# Altium footprint library DIP-CN  0607.PcbLib: 329 footprints (part 5 of 21)
Each footprint in its own frame and in the unit in brackets; x right, y up, seen from the top. Pads: shape width x height; smd on the part's side, far side on the other; paste and mask are expansions set on the pad; w line width, h text height; cw(c..) or ccw(c..) is an arc to the next point about the centre after c.
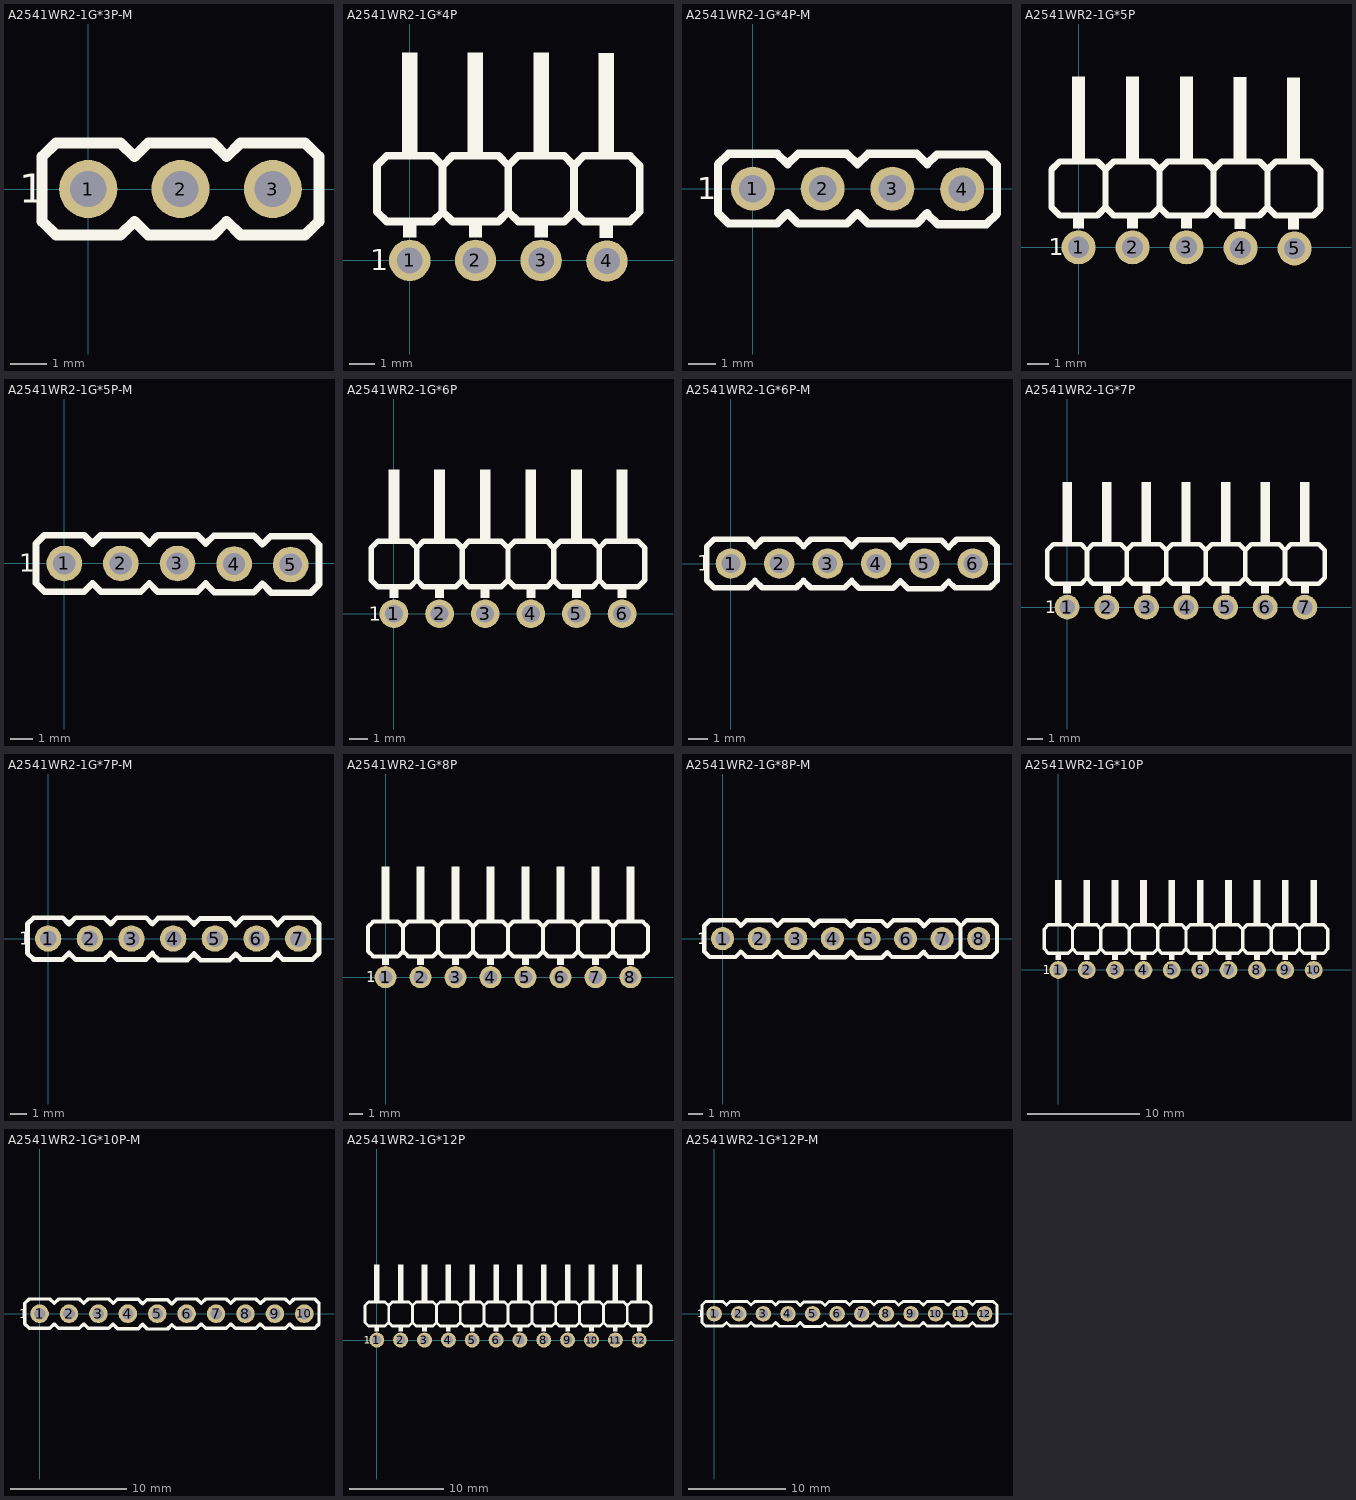
[diagram p4: the footprints below, top view; thin cyan lines are the x and y axes]

## A2541WR2-1G*3P-M [mm]
pads (3):
  round 1.6 hole 1: 1(0,0) 2(2.54,0) 3(5.08,0)
TopOverlay:
  lines w0.3: -1.27,-0.889 -0.889,-1.27 0.889,-1.27 1.27,-0.889 1.651,-1.27 3.429,-1.27 3.81,-0.889 4.191,-1.27 5.969,-1.27 6.35,-0.889 6.35,0.889 5.969,1.27 4.191,1.27 3.81,0.889 3.429,1.27 1.651,1.27 1.27,0.889 0.889,1.27 -0.889,1.27 -1.27,0.889 -1.27,-0.889
  text "1" at -1.905,-0.381 h0.8
BottomOverlay:
  lines w0.3: 1.27,-0.762 1.27,0.762 ; 3.81,-0.762 3.81,0.762

## A2541WR2-1G*4P [mm]
pads (4):
  round 1.6 hole 1: 1(0,0) 2(2.54,0) 3(5.08,0) 4(7.62,-0.025)
TopOverlay:
  rectangle: 7.341,0.864 7.849,1.475
  region: 7.895,4.015 7.895,8.015 7.295,8.015 7.295,4.015
  region: 5.38,4.04 5.38,8.04 4.78,8.04 4.78,4.04
  rectangle: 4.826,0.889 5.334,1.5
  rectangle: 2.286,0.889 2.794,1.5
  rectangle: -0.254,0.889 0.254,1.5
  region: 0.3,4.04 0.3,8.04 -0.3,8.04 -0.3,4.04
  region: 2.84,4.04 2.84,8.04 2.24,8.04 2.24,4.04
  lines w0.3: -1.27,3.611 -1.27,1.881 -0.889,1.5 0.889,1.5 1.27,1.881 ; -1.27,3.659 -0.889,4.04 0.889,4.04 1.27,3.659 ; 8.89,3.611 8.89,1.881 8.509,1.5 6.731,1.5 6.35,1.881 ; 8.89,3.659 8.509,4.04 6.731,4.04 6.35,3.659 ; 1.27,1.881 1.27,3.659 ; 1.27,1.881 1.651,1.5 3.429,1.5 3.81,1.881 4.191,1.5 5.969,1.5 6.35,1.881 ; 1.27,1.881 1.27,3.659 ; 1.27,3.659 1.651,4.04 3.429,4.04 3.81,3.659 4.191,4.04 5.969,4.04 6.35,3.659 ; 6.35,1.881 6.35,3.659 ; 6.35,1.881 6.35,3.659 ; 3.81,1.905 3.81,3.635 3.81,1.905
  text "1" at -1.524,-0.381 h0.8
BottomOverlay:
  lines w0.3: 1.27,-0.762 1.27,0.762 ; 3.81,-0.762 3.81,0.762 ; 6.35,-0.762 6.35,0.762

## A2541WR2-1G*4P-M [mm]
pads (4):
  round 1.6 hole 1: 1(0,0) 2(2.54,0) 3(5.08,0) 4(7.62,-0.025)
TopOverlay:
  lines w0.3: 6.35,-0.914 6.731,-1.295 8.509,-1.295 8.89,-0.914 8.89,0.864 8.509,1.245 6.731,1.245 ; 6.35,-0.889 5.969,-1.27 4.191,-1.27 3.81,-0.889 3.429,-1.27 1.651,-1.27 1.27,-0.889 0.889,-1.27 -0.889,-1.27 -1.27,-0.889 -1.27,0.889 -0.889,1.27 0.889,1.27 1.27,0.889 1.651,1.27 3.429,1.27 3.81,0.889 4.191,1.27 5.969,1.27 6.35,0.889 6.706,1.245
  text "1" at -2.032,-0.381 h0.8
BottomOverlay:
  lines w0.3: 1.27,-0.762 1.27,0.762 ; 3.81,-0.762 3.81,0.762 ; 6.35,-0.762 6.35,0.762

## A2541WR2-1G*5P [mm]
pads (5):
  round 1.6 hole 1: 1(0,0) 2(2.54,0) 3(5.08,0) 4(7.62,-0.025) 5(10.16,-0.051)
TopOverlay:
  rectangle: 7.341,0.864 7.849,1.475
  region: 7.895,4.015 7.895,8.015 7.295,8.015 7.295,4.015
  region: 10.409,3.989 10.409,7.989 9.809,7.989 9.809,3.989
  rectangle: 9.855,0.838 10.363,1.449
  rectangle: 7.341,0.864 7.849,1.475
  region: 7.895,4.015 7.895,8.015 7.295,8.015 7.295,4.015
  region: 5.38,4.04 5.38,8.04 4.78,8.04 4.78,4.04
  rectangle: 4.826,0.889 5.334,1.5
  rectangle: 2.286,0.889 2.794,1.5
  rectangle: -0.254,0.889 0.254,1.5
  region: 0.3,4.04 0.3,8.04 -0.3,8.04 -0.3,4.04
  region: 2.84,4.04 2.84,8.04 2.24,8.04 2.24,4.04
  lines w0.3: -1.27,3.611 -1.27,1.881 -0.889,1.5 0.889,1.5 1.27,1.881 ; -1.27,3.659 -0.889,4.04 0.889,4.04 1.27,3.659 ; 8.89,3.611 8.89,1.881 ; 10.998,3.989 11.379,3.608 10.947,4.04 9.271,4.04 8.89,3.659 8.509,4.04 6.731,4.04 6.35,3.659 ; 11.379,3.56 11.379,1.83 11.049,1.5 9.271,1.5 8.89,1.881 ; 1.27,1.881 1.27,3.659 ; 1.27,1.881 1.651,1.5 3.429,1.5 3.81,1.881 4.191,1.5 5.969,1.5 6.35,1.881 ; 1.27,1.881 1.27,3.659 ; 1.27,3.659 1.651,4.04 3.429,4.04 3.81,3.659 4.191,4.04 5.969,4.04 6.35,3.659 ; 6.35,1.881 6.35,3.659 ; 6.35,1.881 6.731,1.5 8.509,1.5 8.89,1.881 ; 6.35,1.881 6.35,3.659 ; 3.81,1.905 3.81,3.635 3.81,1.905
  text "1" at -1.397,-0.381 h0.8
BottomOverlay:
  lines w0.3: 1.27,-0.762 1.27,0.762 ; 3.81,-0.762 3.81,0.762 ; 6.35,-0.762 6.35,0.762 ; 8.865,-0.787 8.865,0.737

## A2541WR2-1G*5P-M [mm]
pads (5):
  round 1.6 hole 1: 1(0,0) 2(2.54,0) 3(5.08,0) 4(7.62,-0.025) 5(10.16,-0.051)
TopOverlay:
  lines w0.3: 6.35,-0.914 6.731,-1.295 8.509,-1.295 8.89,-0.914 9.296,-1.321 11.049,-1.321 11.43,-0.94 11.43,0.838 11.049,1.219 9.246,1.219 8.89,0.864 8.509,1.245 6.731,1.245 ; 6.35,-0.889 5.969,-1.27 4.191,-1.27 3.81,-0.889 3.429,-1.27 1.651,-1.27 1.27,-0.889 0.889,-1.27 -0.889,-1.27 -1.27,-0.889 -1.27,0.889 -0.889,1.27 0.889,1.27 1.27,0.889 1.651,1.27 3.429,1.27 3.81,0.889 4.191,1.27 5.969,1.27 6.35,0.889 6.706,1.245
  text "1" at -2.032,-0.381 h0.8
BottomOverlay:
  lines w0.3: 1.27,-0.762 1.27,0.762 ; 3.81,-0.762 3.81,0.762 ; 6.35,-0.762 6.35,0.762 ; 8.865,-0.787 8.865,0.737

## A2541WR2-1G*6P [mm]
pads (6):
  round 1.6 hole 1: 1(0,0) 2(2.54,0) 3(5.08,0) 4(7.62,0) 5(10.16,0) 6(12.7,0)
TopOverlay:
  region: 5.38,4.04 5.38,8.04 4.78,8.04 4.78,4.04
  rectangle: 4.826,0.889 5.334,1.5
  rectangle: 2.286,0.889 2.794,1.5
  rectangle: -0.254,0.889 0.254,1.5
  region: 0.3,4.04 0.3,8.04 -0.3,8.04 -0.3,4.04
  region: 2.84,4.04 2.84,8.04 2.24,8.04 2.24,4.04
  rectangle: 7.366,0.889 7.874,1.5
  region: 7.92,4.04 7.92,8.04 7.32,8.04 7.32,4.04
  rectangle: 9.906,0.889 10.414,1.5
  region: 10.46,4.04 10.46,8.04 9.86,8.04 9.86,4.04
  region: 13,4.04 13,8.04 12.4,8.04 12.4,4.04
  rectangle: 12.446,0.889 12.954,1.5
  lines w0.3: -1.27,1.881 -0.889,1.5 0.889,1.5 1.27,1.881 ; -1.27,1.905 -1.27,3.635 ; -1.27,3.659 -0.889,4.04 0.889,4.04 1.27,3.659 ; 3.81,1.905 3.81,3.635 ; 11.43,1.905 11.43,3.635 ; 1.27,1.881 1.27,3.659 ; 1.27,1.881 1.651,1.5 3.429,1.5 3.81,1.881 4.191,1.5 5.969,1.5 6.35,1.881 ; 1.27,1.881 1.27,3.659 ; 1.27,3.659 1.651,4.04 3.429,4.04 3.81,3.659 4.191,4.04 5.969,4.04 6.35,3.659 ; 6.35,1.881 6.35,3.659 ; 6.35,1.881 6.731,1.5 8.509,1.5 8.89,1.881 ; 6.35,3.659 6.731,4.04 8.509,4.04 8.89,3.659 ; 8.89,1.881 8.89,3.659 ; 8.89,1.881 9.271,1.5 11.049,1.5 11.43,1.881 11.811,1.5 13.589,1.5 13.97,1.881 ; 8.89,1.881 8.89,3.659 ; 8.89,3.659 9.271,4.04 11.049,4.04 11.43,3.659 11.811,4.04 13.589,4.04 13.97,3.659 ; 13.97,1.881 13.97,3.659 ; 13.97,1.881 13.97,3.659
  text "1" at -1.397,-0.381 h0.8
BottomOverlay:
  lines w0.3: 1.27,-0.762 1.27,0.762 ; 3.81,-0.762 3.81,0.762 ; 6.35,-0.762 6.35,0.762 ; 8.89,-0.762 8.89,0.762 ; 11.43,-0.762 11.43,0.762

## A2541WR2-1G*6P-M [mm]
pads (6):
  round 1.6 hole 1: 1(0,0) 2(2.54,0) 3(5.08,0) 4(7.62,0) 5(10.16,0) 6(12.7,0)
TopOverlay:
  lines w0.3: 6.35,-0.914 6.731,-1.295 8.509,-1.295 8.89,-0.914 9.296,-1.321 11.049,-1.321 11.43,-0.94 11.76,-1.27 13.589,-1.27 13.97,-0.889 13.97,0.889 13.589,1.27 11.862,1.27 11.43,0.838 11.049,1.219 9.246,1.219 8.89,0.864 8.509,1.245 6.731,1.245 ; 6.35,-0.889 5.969,-1.27 4.191,-1.27 3.81,-0.889 3.429,-1.27 1.651,-1.27 1.27,-0.889 0.889,-1.27 -0.889,-1.27 -1.27,-0.889 -1.27,0.889 -0.889,1.27 0.889,1.27 1.27,0.889 1.651,1.27 3.429,1.27 3.81,0.889 4.191,1.27 5.969,1.27 6.35,0.889 6.706,1.245
  text "1" at -1.778,-0.381 h0.8
BottomOverlay:
  lines w0.3: 1.27,-0.762 1.27,0.762 ; 3.81,-0.762 3.81,0.762 ; 6.35,-0.762 6.35,0.762 ; 8.89,-0.762 8.89,0.762 ; 11.43,-0.762 11.43,0.762

## A2541WR2-1G*7P [mm]
pads (7):
  round 1.6 hole 1: 1(0,0) 2(2.54,0) 3(5.08,0) 4(7.62,0) 5(10.16,0) 6(12.7,0) 7(15.24,0)
TopOverlay:
  region: 5.38,4.04 5.38,8.04 4.78,8.04 4.78,4.04
  rectangle: 4.826,0.889 5.334,1.5
  rectangle: 2.286,0.889 2.794,1.5
  rectangle: -0.254,0.889 0.254,1.5
  region: 0.3,4.04 0.3,8.04 -0.3,8.04 -0.3,4.04
  region: 2.84,4.04 2.84,8.04 2.24,8.04 2.24,4.04
  rectangle: 7.366,0.889 7.874,1.5
  region: 7.92,4.04 7.92,8.04 7.32,8.04 7.32,4.04
  rectangle: 9.906,0.889 10.414,1.5
  region: 10.46,4.04 10.46,8.04 9.86,8.04 9.86,4.04
  region: 13,4.04 13,8.04 12.4,8.04 12.4,4.04
  rectangle: 12.446,0.889 12.954,1.5
  rectangle: 14.986,0.889 15.494,1.5
  region: 15.54,4.04 15.54,8.04 14.94,8.04 14.94,4.04
  lines w0.3: -1.27,1.881 -0.889,1.5 0.889,1.5 1.27,1.881 ; -1.27,1.905 -1.27,3.635 ; -1.27,3.659 -0.889,4.04 0.889,4.04 1.27,3.659 ; 3.81,1.905 3.81,3.635 ; 11.43,1.905 11.43,3.635 ; 1.27,1.881 1.27,3.659 ; 1.27,1.881 1.651,1.5 3.429,1.5 3.81,1.881 4.191,1.5 5.969,1.5 6.35,1.881 ; 1.27,1.881 1.27,3.659 ; 1.27,3.659 1.651,4.04 3.429,4.04 3.81,3.659 4.191,4.04 5.969,4.04 6.35,3.659 ; 6.35,1.881 6.35,3.659 ; 6.35,1.881 6.731,1.5 8.509,1.5 8.89,1.881 ; 6.35,3.659 6.731,4.04 8.509,4.04 8.89,3.659 ; 8.89,1.881 8.89,3.659 ; 8.89,1.881 9.271,1.5 11.049,1.5 11.43,1.881 11.811,1.5 13.589,1.5 13.97,1.881 ; 8.89,1.881 8.89,3.659 ; 8.89,3.659 9.271,4.04 11.049,4.04 11.43,3.659 11.811,4.04 13.589,4.04 13.97,3.659 ; 13.97,1.881 13.97,3.659 ; 13.97,1.881 13.97,3.659 ; 13.97,1.881 14.351,1.5 16.129,1.5 16.51,1.881 ; 13.97,3.659 14.351,4.04 16.129,4.04 16.51,3.659 ; 16.51,1.881 16.51,3.659 ; 16.51,1.881 16.51,3.659
  text "1" at -1.397,-0.381 h0.8
BottomOverlay:
  lines w0.3: 1.27,-0.762 1.27,0.762 ; 3.81,-0.762 3.81,0.762 ; 6.35,-0.762 6.35,0.762 ; 8.89,-0.762 8.89,0.762 ; 11.43,-0.762 11.43,0.762 ; 13.97,-0.762 13.97,0.762

## A2541WR2-1G*7P-M [mm]
pads (7):
  round 1.6 hole 1: 1(0,0) 2(2.54,0) 3(5.08,0) 4(7.62,0) 5(10.16,0) 6(12.7,0) 7(15.24,0)
TopOverlay:
  lines w0.3: 6.35,-0.914 6.731,-1.295 8.509,-1.295 8.89,-0.914 9.296,-1.321 11.049,-1.321 11.43,-0.94 11.76,-1.27 13.589,-1.27 13.97,-0.889 ; 6.35,-0.889 5.969,-1.27 4.191,-1.27 3.81,-0.889 3.429,-1.27 1.651,-1.27 1.27,-0.889 0.889,-1.27 -0.889,-1.27 -1.27,-0.889 -1.27,0.889 -0.889,1.27 0.889,1.27 1.27,0.889 1.651,1.27 3.429,1.27 3.81,0.889 4.191,1.27 5.969,1.27 6.35,0.889 6.706,1.245 ; 6.731,1.245 8.509,1.245 8.89,0.864 9.246,1.219 11.049,1.219 11.43,0.838 11.862,1.27 13.589,1.27 13.97,0.889 ; 13.97,-0.94 14.3,-1.27 16.129,-1.27 16.51,-0.889 16.51,0.889 16.129,1.27 14.402,1.27 13.97,0.838
  text "1" at -1.778,-0.381 h0.8
BottomOverlay:
  lines w0.3: 1.27,-0.762 1.27,0.762 ; 3.81,-0.762 3.81,0.762 ; 6.35,-0.762 6.35,0.762 ; 8.89,-0.762 8.89,0.762 ; 11.43,-0.762 11.43,0.762 ; 13.97,-0.762 13.97,0.762

## A2541WR2-1G*8P [mm]
pads (8):
  round 1.6 hole 1: 1(0,0) 2(2.54,0) 3(5.08,0) 4(7.62,0) 5(10.16,0) 6(12.7,0) 7(15.24,0) 8(17.78,0)
TopOverlay:
  region: 18.08,4.04 18.08,8.04 17.48,8.04 17.48,4.04
  rectangle: 17.526,0.889 18.034,1.5
  region: 5.38,4.04 5.38,8.04 4.78,8.04 4.78,4.04
  rectangle: 4.826,0.889 5.334,1.5
  rectangle: 2.286,0.889 2.794,1.5
  rectangle: -0.254,0.889 0.254,1.5
  region: 0.3,4.04 0.3,8.04 -0.3,8.04 -0.3,4.04
  region: 2.84,4.04 2.84,8.04 2.24,8.04 2.24,4.04
  rectangle: 7.366,0.889 7.874,1.5
  region: 7.92,4.04 7.92,8.04 7.32,8.04 7.32,4.04
  rectangle: 9.906,0.889 10.414,1.5
  region: 10.46,4.04 10.46,8.04 9.86,8.04 9.86,4.04
  region: 13,4.04 13,8.04 12.4,8.04 12.4,4.04
  rectangle: 12.446,0.889 12.954,1.5
  rectangle: 14.986,0.889 15.494,1.5
  region: 15.54,4.04 15.54,8.04 14.94,8.04 14.94,4.04
  lines w0.3: -1.27,1.881 -0.889,1.5 0.889,1.5 1.27,1.881 ; -1.27,1.905 -1.27,3.635 ; -1.27,3.659 -0.889,4.04 0.889,4.04 1.27,3.659 ; 3.81,1.905 3.81,3.635 ; 11.43,1.905 11.43,3.635 ; 1.27,1.881 1.27,3.659 ; 1.27,1.881 1.651,1.5 3.429,1.5 3.81,1.881 4.191,1.5 5.969,1.5 6.35,1.881 ; 1.27,1.881 1.27,3.659 ; 1.27,3.659 1.651,4.04 3.429,4.04 3.81,3.659 4.191,4.04 5.969,4.04 6.35,3.659 ; 6.35,1.881 6.35,3.659 ; 6.35,1.881 6.731,1.5 8.509,1.5 8.89,1.881 ; 6.35,3.659 6.731,4.04 8.509,4.04 8.89,3.659 ; 8.89,1.881 8.89,3.659 ; 8.89,1.881 9.271,1.5 11.049,1.5 11.43,1.881 11.811,1.5 13.589,1.5 13.97,1.881 ; 8.89,1.881 8.89,3.659 ; 8.89,3.659 9.271,4.04 11.049,4.04 11.43,3.659 11.811,4.04 13.589,4.04 13.97,3.659 ; 13.97,1.881 13.97,3.659 ; 13.97,1.881 13.97,3.659 ; 13.97,1.881 14.351,1.5 16.129,1.5 16.51,1.881 ; 13.97,3.659 14.351,4.04 16.129,4.04 16.51,3.659 ; 16.51,1.881 16.891,1.5 18.669,1.5 19.05,1.881 ; 16.51,1.881 16.51,3.659 ; 16.51,1.881 16.51,3.659 ; 16.51,3.659 16.891,4.04 18.669,4.04 19.05,3.659 ; 19.05,1.881 19.05,3.659 ; 19.05,1.881 19.05,3.659
  text "1" at -1.397,-0.381 h0.8
BottomOverlay:
  lines w0.3: 1.27,-0.762 1.27,0.762 ; 3.81,-0.762 3.81,0.762 ; 6.35,-0.762 6.35,0.762 ; 8.89,-0.762 8.89,0.762 ; 11.43,-0.762 11.43,0.762 ; 13.97,-0.762 13.97,0.762 ; 16.51,-0.762 16.51,0.762

## A2541WR2-1G*8P-M [mm]
pads (8):
  round 1.6 hole 1: 1(0,0) 2(2.54,0) 3(5.08,0) 4(7.62,0) 5(10.16,0) 6(12.7,0) 7(15.24,0) 8(17.78,0)
TopOverlay:
  lines w0.3: 6.35,-0.914 6.731,-1.295 8.509,-1.295 8.89,-0.914 9.296,-1.321 11.049,-1.321 11.43,-0.94 11.76,-1.27 13.589,-1.27 13.97,-0.889 ; 6.35,-0.889 5.969,-1.27 4.191,-1.27 3.81,-0.889 3.429,-1.27 1.651,-1.27 1.27,-0.889 0.889,-1.27 -0.889,-1.27 -1.27,-0.889 -1.27,0.889 -0.889,1.27 0.889,1.27 1.27,0.889 1.651,1.27 3.429,1.27 3.81,0.889 4.191,1.27 5.969,1.27 6.35,0.889 6.706,1.245 ; 6.731,1.245 8.509,1.245 8.89,0.864 9.246,1.219 11.049,1.219 11.43,0.838 11.862,1.27 13.589,1.27 13.97,0.889 ; 13.97,-0.94 14.3,-1.27 16.129,-1.27 16.51,-0.889 16.51,0.889 16.129,1.27 14.402,1.27 13.97,0.838 ; 16.51,-0.94 16.84,-1.27 18.669,-1.27 19.05,-0.889 19.05,0.889 18.669,1.27 16.942,1.27 16.51,0.838
  text "1" at -1.778,-0.381 h0.8
BottomOverlay:
  lines w0.3: 1.27,-0.762 1.27,0.762 ; 3.81,-0.762 3.81,0.762 ; 6.35,-0.762 6.35,0.762 ; 8.89,-0.762 8.89,0.762 ; 11.43,-0.762 11.43,0.762 ; 13.97,-0.762 13.97,0.762 ; 16.51,-0.762 16.51,0.762

## A2541WR2-1G*10P [mm]
pads (10):
  round 1.6 hole 1: 1(0,0) 2(2.54,0) 3(5.08,0) 4(7.62,0) 5(10.16,0) 6(12.7,0) 7(15.24,0) 8(17.78,0) 9(20.32,0) 10(22.86,0)
TopOverlay:
  region: 18.08,4.04 18.08,8.04 17.48,8.04 17.48,4.04
  rectangle: 17.526,0.889 18.034,1.5
  region: 5.38,4.04 5.38,8.04 4.78,8.04 4.78,4.04
  rectangle: 4.826,0.889 5.334,1.5
  rectangle: 2.286,0.889 2.794,1.5
  rectangle: -0.254,0.889 0.254,1.5
  region: 0.3,4.04 0.3,8.04 -0.3,8.04 -0.3,4.04
  region: 2.84,4.04 2.84,8.04 2.24,8.04 2.24,4.04
  rectangle: 7.366,0.889 7.874,1.5
  region: 7.92,4.04 7.92,8.04 7.32,8.04 7.32,4.04
  rectangle: 9.906,0.889 10.414,1.5
  region: 10.46,4.04 10.46,8.04 9.86,8.04 9.86,4.04
  region: 13,4.04 13,8.04 12.4,8.04 12.4,4.04
  rectangle: 12.446,0.889 12.954,1.5
  rectangle: 14.986,0.889 15.494,1.5
  region: 15.54,4.04 15.54,8.04 14.94,8.04 14.94,4.04
  region: 20.62,4.04 20.62,8.04 20.02,8.04 20.02,4.04
  rectangle: 20.066,0.889 20.574,1.5
  rectangle: 22.606,0.889 23.114,1.5
  region: 23.16,4.04 23.16,8.04 22.56,8.04 22.56,4.04
  lines w0.3: -1.27,1.881 -0.889,1.5 0.889,1.5 1.27,1.881 ; -1.27,1.905 -1.27,3.635 ; -1.27,3.659 -0.889,4.04 0.889,4.04 1.27,3.659 ; 3.81,1.905 3.81,3.635 ; 11.43,1.905 11.43,3.635 ; 1.27,1.881 1.27,3.659 ; 1.27,1.881 1.651,1.5 3.429,1.5 3.81,1.881 4.191,1.5 5.969,1.5 6.35,1.881 ; 1.27,1.881 1.27,3.659 ; 1.27,3.659 1.651,4.04 3.429,4.04 3.81,3.659 4.191,4.04 5.969,4.04 6.35,3.659 ; 6.35,1.881 6.35,3.659 ; 6.35,1.881 6.731,1.5 8.509,1.5 8.89,1.881 ; 6.35,3.659 6.731,4.04 8.509,4.04 8.89,3.659 ; 8.89,1.881 8.89,3.659 ; 8.89,1.881 9.271,1.5 11.049,1.5 11.43,1.881 11.811,1.5 13.589,1.5 13.97,1.881 ; 8.89,1.881 8.89,3.659 ; 8.89,3.659 9.271,4.04 11.049,4.04 11.43,3.659 11.811,4.04 13.589,4.04 13.97,3.659 ; 13.97,1.881 13.97,3.659 ; 13.97,1.881 13.97,3.659 ; 13.97,1.881 14.351,1.5 16.129,1.5 16.51,1.881 ; 13.97,3.659 14.351,4.04 16.129,4.04 16.51,3.659 ; 16.51,1.881 16.891,1.5 18.669,1.5 19.05,1.881 ; 16.51,1.881 16.51,3.659 ; 16.51,1.881 16.51,3.659 ; 16.51,3.659 16.891,4.04 18.669,4.04 19.05,3.659 ; 19.05,1.881 19.05,3.659 ; 19.05,1.881 19.05,3.659 ; 19.05,1.881 19.431,1.5 21.209,1.5 21.59,1.881 ; 19.05,3.659 19.431,4.04 21.209,4.04 21.59,3.659 ; 21.59,1.881 21.59,3.659 ; 21.59,1.881 21.59,3.659 ; 21.59,1.881 21.971,1.5 23.749,1.5 24.13,1.881 ; 21.59,3.659 21.971,4.04 23.749,4.04 24.13,3.659 ; 24.13,1.881 24.13,3.659 ; 24.13,1.881 24.13,3.659
  text "1" at -1.397,-0.381 h0.8
BottomOverlay:
  lines w0.3: 1.27,-0.762 1.27,0.762 ; 3.81,-0.762 3.81,0.762 ; 6.35,-0.762 6.35,0.762 ; 8.89,-0.762 8.89,0.762 ; 11.43,-0.762 11.43,0.762 ; 13.97,-0.762 13.97,0.762 ; 16.51,-0.762 16.51,0.762 ; 19.05,-0.762 19.05,0.762 ; 21.59,-0.762 21.59,0.762

## A2541WR2-1G*10P-M [mm]
pads (10):
  round 1.6 hole 1: 1(0,0) 2(2.54,0) 3(5.08,0) 4(7.62,0) 5(10.16,0) 6(12.7,0) 7(15.24,0) 8(17.78,0) 9(20.32,0) 10(22.86,0)
TopOverlay:
  lines w0.3: 6.35,-0.914 6.731,-1.295 8.509,-1.295 8.89,-0.914 9.296,-1.321 11.049,-1.321 11.43,-0.94 11.76,-1.27 13.589,-1.27 13.97,-0.889 14.351,-1.27 16.129,-1.27 16.51,-0.889 16.891,-1.27 18.669,-1.27 19.05,-0.889 19.431,-1.27 21.209,-1.27 21.59,-0.889 21.971,-1.27 23.749,-1.27 24.13,-0.889 24.13,0.889 23.749,1.27 21.971,1.27 21.59,0.889 21.209,1.27 19.482,1.27 19.05,0.889 18.669,1.27 16.891,1.27 16.51,0.889 16.129,1.27 14.351,1.27 13.97,0.889 13.589,1.27 11.862,1.27 11.43,0.838 11.049,1.219 9.246,1.219 8.89,0.864 8.509,1.245 6.731,1.245 ; 6.35,-0.889 5.969,-1.27 4.191,-1.27 3.81,-0.889 3.429,-1.27 1.651,-1.27 1.27,-0.889 0.889,-1.27 -0.889,-1.27 -1.27,-0.889 -1.27,0.889 -0.889,1.27 0.889,1.27 1.27,0.889 1.651,1.27 3.429,1.27 3.81,0.889 4.191,1.27 5.969,1.27 6.35,0.889 6.706,1.245
  text "1" at -1.778,-0.381 h0.8
BottomOverlay:
  lines w0.3: 1.27,-0.762 1.27,0.762 ; 3.81,-0.762 3.81,0.762 ; 6.35,-0.762 6.35,0.762 ; 8.89,-0.762 8.89,0.762 ; 11.43,-0.762 11.43,0.762 ; 13.97,-0.762 13.97,0.762 ; 16.51,-0.762 16.51,0.762 ; 19.05,-0.762 19.05,0.762 ; 21.59,-0.762 21.59,0.762

## A2541WR2-1G*11P-M [mm]

## A2541WR2-1G*12P [mm]
pads (12):
  round 1.6 hole 1: 1(0,0) 2(2.54,0) 3(5.08,0) 4(7.62,0) 5(10.16,0) 6(12.7,0) 7(15.24,0) 8(17.78,0) 9(20.32,0) 10(22.86,0) 11(25.4,0) 12(27.94,0)
TopOverlay:
  region: 28.24,4.04 28.24,8.04 27.64,8.04 27.64,4.04
  rectangle: 27.686,0.889 28.194,1.5
  rectangle: 25.146,0.889 25.654,1.5
  region: 25.7,4.04 25.7,8.04 25.1,8.04 25.1,4.04
  region: 18.08,4.04 18.08,8.04 17.48,8.04 17.48,4.04
  rectangle: 17.526,0.889 18.034,1.5
  region: 5.38,4.04 5.38,8.04 4.78,8.04 4.78,4.04
  rectangle: 4.826,0.889 5.334,1.5
  rectangle: 2.286,0.889 2.794,1.5
  rectangle: -0.254,0.889 0.254,1.5
  region: 0.3,4.04 0.3,8.04 -0.3,8.04 -0.3,4.04
  region: 2.84,4.04 2.84,8.04 2.24,8.04 2.24,4.04
  rectangle: 7.366,0.889 7.874,1.5
  region: 7.92,4.04 7.92,8.04 7.32,8.04 7.32,4.04
  rectangle: 9.906,0.889 10.414,1.5
  region: 10.46,4.04 10.46,8.04 9.86,8.04 9.86,4.04
  region: 13,4.04 13,8.04 12.4,8.04 12.4,4.04
  rectangle: 12.446,0.889 12.954,1.5
  rectangle: 14.986,0.889 15.494,1.5
  region: 15.54,4.04 15.54,8.04 14.94,8.04 14.94,4.04
  region: 20.62,4.04 20.62,8.04 20.02,8.04 20.02,4.04
  rectangle: 20.066,0.889 20.574,1.5
  rectangle: 22.606,0.889 23.114,1.5
  region: 23.16,4.04 23.16,8.04 22.56,8.04 22.56,4.04
  lines w0.3: -1.27,1.881 -0.889,1.5 0.889,1.5 1.27,1.881 ; -1.27,1.905 -1.27,3.635 ; -1.27,3.659 -0.889,4.04 0.889,4.04 1.27,3.659 ; 3.81,1.905 3.81,3.635 ; 11.43,1.905 11.43,3.635 ; 1.27,1.881 1.27,3.659 ; 1.27,1.881 1.651,1.5 3.429,1.5 3.81,1.881 4.191,1.5 5.969,1.5 6.35,1.881 ; 1.27,1.881 1.27,3.659 ; 1.27,3.659 1.651,4.04 3.429,4.04 3.81,3.659 4.191,4.04 5.969,4.04 6.35,3.659 ; 6.35,1.881 6.35,3.659 ; 6.35,1.881 6.731,1.5 8.509,1.5 8.89,1.881 ; 6.35,3.659 6.731,4.04 8.509,4.04 8.89,3.659 ; 8.89,1.881 8.89,3.659 ; 8.89,1.881 9.271,1.5 11.049,1.5 11.43,1.881 11.811,1.5 13.589,1.5 13.97,1.881 ; 8.89,1.881 8.89,3.659 ; 8.89,3.659 9.271,4.04 11.049,4.04 11.43,3.659 11.811,4.04 13.589,4.04 13.97,3.659 ; 13.97,1.881 13.97,3.659 ; 13.97,1.881 13.97,3.659 ; 13.97,1.881 14.351,1.5 16.129,1.5 16.51,1.881 ; 13.97,3.659 14.351,4.04 16.129,4.04 16.51,3.659 ; 16.51,1.881 16.891,1.5 18.669,1.5 19.05,1.881 ; 16.51,1.881 16.51,3.659 ; 16.51,1.881 16.51,3.659 ; 16.51,3.659 16.891,4.04 18.669,4.04 19.05,3.659 ; 19.05,1.881 19.05,3.659 ; 19.05,1.881 19.05,3.659 ; 19.05,1.881 19.431,1.5 21.209,1.5 21.59,1.881 ; 19.05,3.659 19.431,4.04 21.209,4.04 21.59,3.659 ; 21.59,1.881 21.59,3.659 ; 21.59,1.881 21.59,3.659 ; 21.59,1.881 21.971,1.5 23.749,1.5 24.13,1.881 ; 21.59,3.659 21.971,4.04 23.749,4.04 24.13,3.659 ; 24.13,1.881 24.511,1.5 26.289,1.5 26.67,1.881 ; 24.13,1.881 24.13,3.659 ; 24.13,1.881 24.13,3.659 ; 24.13,3.659 24.511,4.04 26.289,4.04 26.67,3.659 ; 26.67,1.881 27.051,1.5 28.829,1.5 29.21,1.881 ; 26.67,1.881 26.67,3.659 ; 26.67,1.881 26.67,3.659 ; 26.67,3.659 27.051,4.04 28.829,4.04 29.21,3.659 ; 29.21,1.881 29.21,3.659 ; 29.21,1.881 29.21,3.659
  text "1" at -1.397,-0.381 h0.8
BottomOverlay:
  lines w0.3: 1.27,-0.762 1.27,0.762 ; 3.81,-0.762 3.81,0.762 ; 6.35,-0.762 6.35,0.762 ; 8.89,-0.762 8.89,0.762 ; 11.43,-0.762 11.43,0.762 ; 13.97,-0.762 13.97,0.762 ; 16.51,-0.762 16.51,0.762 ; 19.05,-0.762 19.05,0.762 ; 21.59,-0.762 21.59,0.762 ; 24.13,-0.762 24.13,0.762 ; 26.67,-0.762 26.67,0.762

## A2541WR2-1G*12P-M [mm]
pads (12):
  round 1.6 hole 1: 1(0,0) 2(2.54,0) 3(5.08,0) 4(7.62,0) 5(10.16,0) 6(12.7,0) 7(15.24,0) 8(17.78,0) 9(20.32,0) 10(22.86,0) 11(25.4,0) 12(27.94,0)
TopOverlay:
  lines w0.3: 6.35,-0.914 6.731,-1.295 8.509,-1.295 8.89,-0.914 9.296,-1.321 11.049,-1.321 11.43,-0.94 11.76,-1.27 13.589,-1.27 13.97,-0.889 14.351,-1.27 16.129,-1.27 16.51,-0.889 16.891,-1.27 18.669,-1.27 19.05,-0.889 19.431,-1.27 21.209,-1.27 21.59,-0.889 21.971,-1.27 23.749,-1.27 24.13,-0.889 24.511,-1.27 26.289,-1.27 26.67,-0.889 27.051,-1.27 28.829,-1.27 29.21,-0.889 29.21,0.889 28.829,1.27 27.051,1.27 26.67,0.889 26.289,1.27 24.562,1.27 24.13,0.889 23.749,1.27 21.971,1.27 21.59,0.889 21.209,1.27 19.482,1.27 19.05,0.889 18.669,1.27 16.891,1.27 16.51,0.889 16.129,1.27 14.351,1.27 13.97,0.889 13.589,1.27 11.862,1.27 11.43,0.838 11.049,1.219 9.246,1.219 8.89,0.864 8.509,1.245 6.731,1.245 ; 6.35,-0.889 5.969,-1.27 4.191,-1.27 3.81,-0.889 3.429,-1.27 1.651,-1.27 1.27,-0.889 0.889,-1.27 -0.889,-1.27 -1.27,-0.889 -1.27,0.889 -0.889,1.27 0.889,1.27 1.27,0.889 1.651,1.27 3.429,1.27 3.81,0.889 4.191,1.27 5.969,1.27 6.35,0.889 6.706,1.245
  text "1" at -1.778,-0.381 h0.8
BottomOverlay:
  lines w0.3: 1.27,-0.762 1.27,0.762 ; 3.81,-0.762 3.81,0.762 ; 6.35,-0.762 6.35,0.762 ; 8.89,-0.762 8.89,0.762 ; 11.43,-0.762 11.43,0.762 ; 13.97,-0.762 13.97,0.762 ; 16.51,-0.762 16.51,0.762 ; 19.05,-0.762 19.05,0.762 ; 21.59,-0.762 21.59,0.762 ; 24.13,-0.762 24.13,0.762 ; 26.67,-0.762 26.67,0.762